# Altium integrated library MINI-SPDT-SW.IntLib: 1 symbol
Pins are listed as number, name and electrical type; pins without a type are passive.

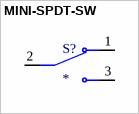
[diagram p0: symbol MINI-SPDT-SW]

## MINI-SPDT-SW
designator S?
Simple breadboard friendly SPDT slide switch. Rated at 30V/200mA with operating force of 250 +/-100gf.; MP: MINI-SPDT-SW; Availability: Unavailable; Package: None; Value: *; Price: None
footprint SW_MINI-SPDT-SW
pins: 1, 2, 3